# Altium footprint library Penguin.PcbLib: 37 footprints (part 2 of 3)
Each footprint in its own frame and in the unit in brackets; x right, y up, seen from the top. Pads: shape width x height; smd on the part's side, far side on the other; paste and mask are expansions set on the pad; w line width, h text height; cw(c..) or ccw(c..) is an arc to the next point about the centre after c.
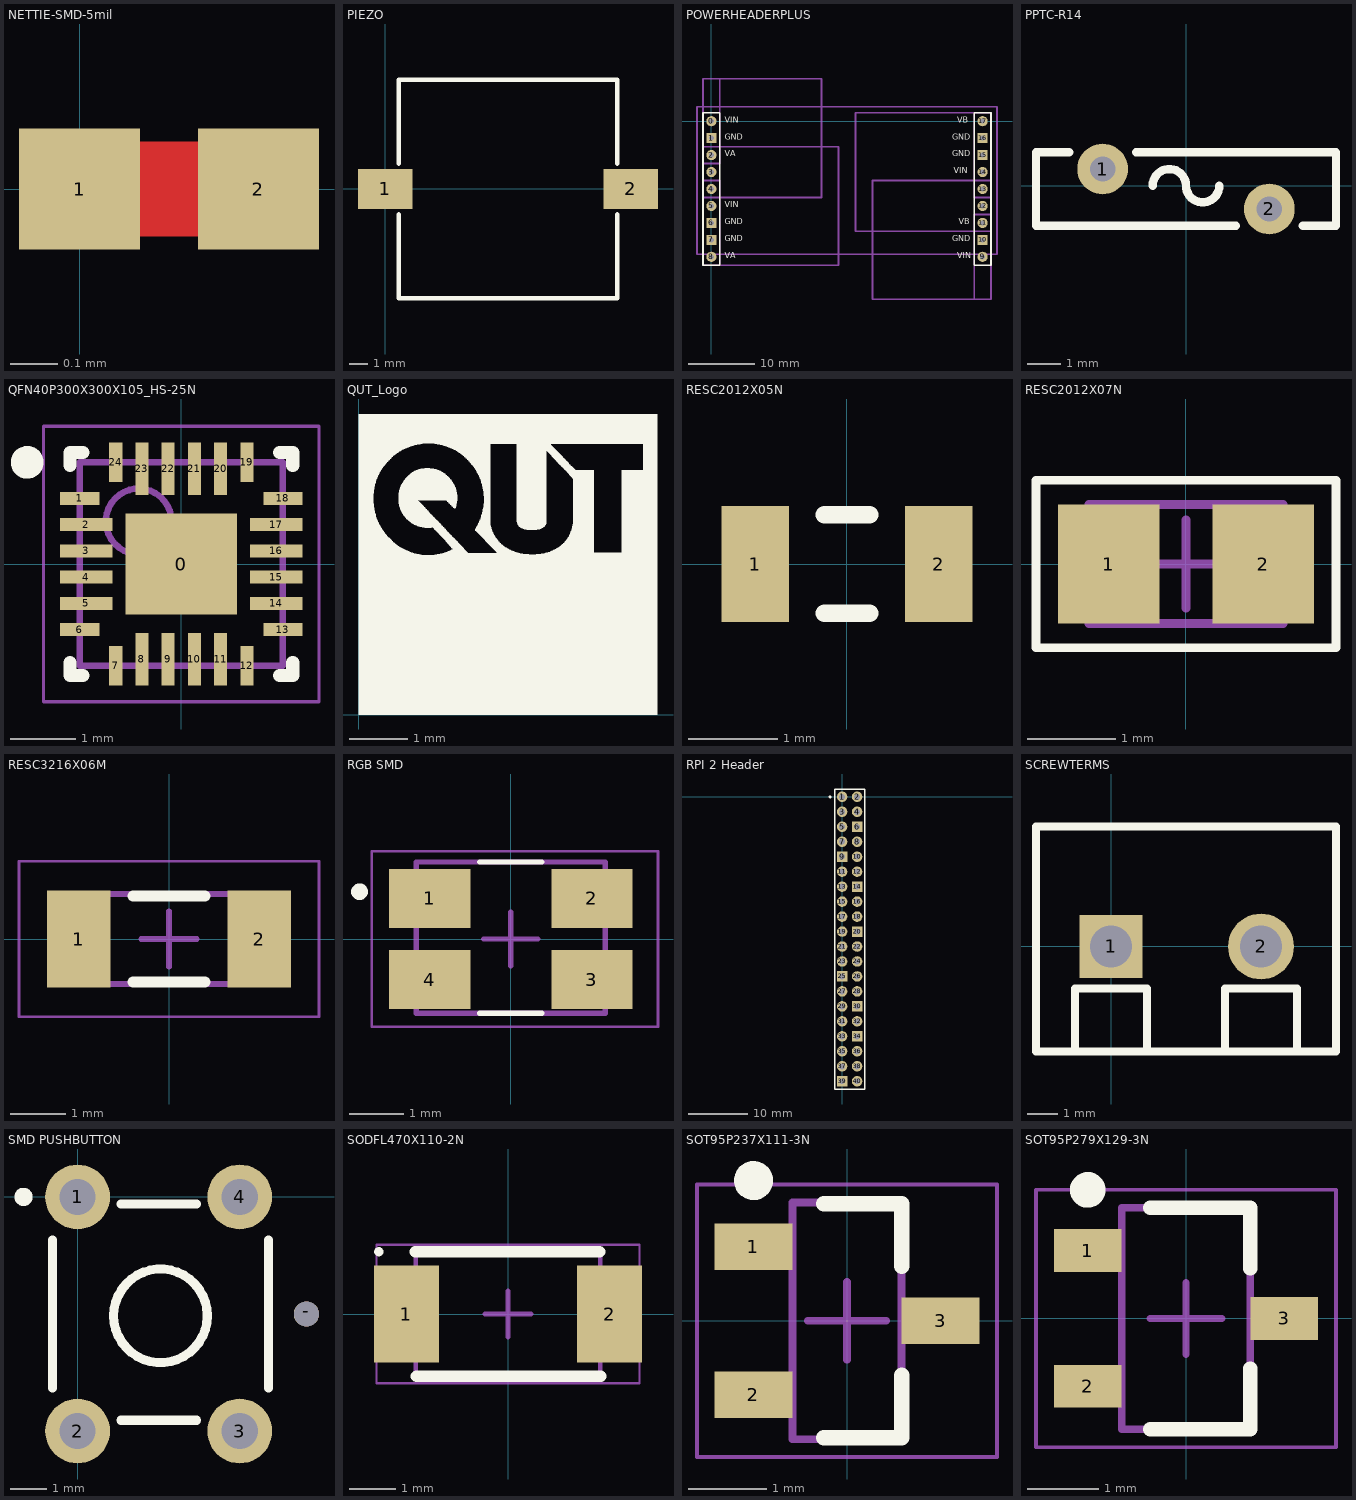
[diagram p1: the footprints below, top view; thin cyan lines are the x and y axes]

## NETTIE-SMD-5mil [mil]
pads (2):
  rect 10x10 smd paste+0 mask+0: 1(0,0) 2(14.76,0)
Top Layer:
  lines w7.87: 0.98,0 13.78,0

## PIEZO [mm]
height 3
pads (2):
  rect 3x2.2 smd: 1(0,0) 2(13.5,0)
Top Overlay:
  lines w0.254: 0.75,-1.4 0.75,-6 12.75,-6 12.75,-1.4 ; 0.75,1.4 0.75,6 12.75,6 12.75,1.4
3D body: height 3, standoff 0, extent 0.623,-6.127 12.877,6.127

## POWERHEADERPLUS [mil]
pads (18):
  round 60 hole 30: 0(0,0) 2(0,-200) 3(0,-300) 4(0,-400) 5(0,-500) 8(0,-800) 9(1600,-800) 11(1600,-600) 12(1600,-500) 13(1600,-400) 14(1600,-300) 17(1600,0)
  rect 60x60 hole 30: 1(0,-100) 6(0,-600) 7(0,-700) 10(1600,-700) 15(1600,-200) 16(1600,-100)
Top Overlay:
  lines w10: -50,-850 50,-850 50,50 -50,50 -50,-850 ; 1550,-850 1650,-850 1650,50 1550,50 1550,-850
  text "GND" at 80,-620 h60
  text "GND" at 1420,-120 h60
  text "VA" at 80,-220 h60
  text "VA" at 80,-820 h60
  text "VB" at 1450,-20 h60
  text "VIN" at 80,-520 h60
  text "GND" at 80,-720 h60
  text "VIN" at 1430,-320 h60
  text "GND" at 1420,-720 h60
  text "VIN" at 80,-20 h60
  text "VIN" at 1450,-820 h60
  text "GND" at 1420,-220 h60
  text "VB" at 1460,-620 h60
  text "GND" at 80,-120 h60
Mechanical 13:
  lines w10: -50,-350 50,-350 50,-850 ; -50,-250 50,-250 50,250 ; 1550,-1050 1550,-550 1650,-550 ; 1550,50 1550,-450 1650,-450 ; -85,-785 -85,85 1685,85 1685,-785 -85,-785 ; -50,-850 -50,-150 750,-150 750,-850 -50,-850 ; -50,-450 650,-450 650,250 -50,250 -50,-450 ; 850,-650 1650,-650 1650,50 850,50 850,-650 ; 950,-1050 950,-350 1650,-350 1650,-1050 950,-1050
  text "D24V50F5" at 1070,0 h60
  text "D24V22F5" at 1070,-1030 h60
  text "D24V50F5" at 260,-840 h60
  text "D24V22F5" at 260,200 h60
  text "XL6009" at 1700,-380 h60
3D body: height 400, standoff 300, extent -85,-1050 1685,250
3D body: height 300, standoff 0, extent 1550,-850 1650,50
3D body: height 300, standoff 0, extent -50,-850 50,50

## PPTC-R14 [mil]
pads (2):
  round 60 hole 30: 1(-98.43,19.68) 2(98.43,-27.56)
Top Overlay:
  lines w10: -137.8,39.37 -177.17,39.37 -177.17,-47.24 59.06,-47.24 ; -59.05,39.37 177.17,39.37 177.17,-47.24 137.8,-47.24 ; -39.37,0 cw(c-19.68,0) 0,0 ccw(c19.68,0) 39.37,0
3D body "TE-PPTC-R10.STEP": height 472.44, standoff -228.35, extent -176.18,-52.76 174.21,43.31

## QFN40P300X300X105_HS-25N [mm] "QFN, 24-Leads, Body 3.00x3.00mm, Pitch 0.40mm, Thermal Pad 1.70x1.54mm, IPC Medium Density"
height 1.05
pads (25):
  rect 1.7x1.54 smd: 0(0,0)
  rect 0.6x0.2 smd: 1(-1.55,1) 6(-1.55,-1) 13(1.55,-1) 18(1.55,1)
  rect 0.8x0.2 smd: 2(-1.45,0.6) 3(-1.45,0.2) 4(-1.45,-0.2) 5(-1.45,-0.6) 14(1.45,-0.6) 15(1.45,-0.2) 16(1.45,0.2) 17(1.45,0.6)
  rect 0.2x0.6 smd: 7(-1,-1.55) 12(1,-1.55) 19(1,1.55) 24(-1,1.55)
  rect 0.2x0.8 smd: 8(-0.6,-1.45) 9(-0.2,-1.45) 10(0.2,-1.45) 11(0.6,-1.45) 20(0.6,1.45) 21(0.2,1.45) 22(-0.2,1.45) 23(-0.6,1.45)
Top Overlay:
  circle w0.25: c-2.35,1.55 r0.125
  lines w0.2: -1.7,-1.5 -1.7,-1.7 -1.5,-1.7 ; -1.7,1.5 -1.7,1.7 -1.5,1.7 ; 1.5,-1.7 1.7,-1.7 1.7,-1.5 ; 1.5,1.7 1.7,1.7 1.7,1.5
Mechanical 15:
  circle w0.1: c-0.65,0.65 r0.5
  lines w0.05: -2.1,-2.1 2.1,-2.1 2.1,2.1 -2.1,2.1 -2.1,-2.1
  lines w0.1: -0.5,0 0.5,0 ; 0,-0.5 0,0.5 ; -1.55,-1.55 1.55,-1.55 1.55,1.55 -1.55,1.55 -1.55,-1.55
3D body "QFN40P300X300X105_HS-25N.step": height 1.05, standoff 0, extent -1.57,-1.57 1.57,1.57

## QUT_Logo [mm]
Top Overlay:
  drawing of 2706 lines, arcs and shapes, not listed

## RESC2012X05N [mm] "Chip Resistor, 2-Leads, Body 2.00x1.20mm, IPC Medium Density"
height 0.5
pads (2):
  rect 0.75x1.3 smd: 1(-1.025,0) 2(1.025,0)
Top Overlay:
  lines w0.2: -0.25,-0.55 0.25,-0.55 ; -0.25,0.55 0.25,0.55

## RESC2012X07N [mm] "Chip Resistor, 2-Leads, Body 2.00x1.25mm, IPC Medium Density"
height 0.7
pads (2):
  rect 1.15x1.35 smd: 1(-0.875,0) 2(0.875,0)
Top Overlay:
  lines w0.1: -1.7,-0.95 1.7,-0.95 1.7,0.95 -1.7,0.95 -1.7,-0.95
Mechanical 15:
  lines w0.05: -1.7,-0.95 -1.7,0.95 1.7,0.95 1.7,-0.95 -1.7,-0.95
  lines w0.1: -0.5,0 0.5,0 ; 0,-0.5 0,0.5 ; -1.1,-0.675 1.1,-0.675 1.1,0.675 -1.1,0.675 -1.1,-0.675
3D body "RESC2012X07N.step": height 0.7, standoff 0, extent -1.1,-0.675 1.1,0.675

## RESC3216X06M [mm] "Chip Resistor, 2-Leads, Body 3.20x1.60mm, IPC Low Density"
height 0.62
pads (2):
  rect 1.15x1.75 smd: 1(-1.625,0) 2(1.625,0)
Top Overlay:
  lines w0.2: -0.65,-0.775 0.65,-0.775 ; -0.65,0.775 0.65,0.775
Mechanical 13:
  lines w0.1: -1.61,-0.81 -1.61,0.81 1.61,0.81 1.61,-0.81 -1.61,-0.81
Mechanical 15:
  lines w0.05: -2.7,-1.4 -2.7,1.4 2.7,1.4 2.7,-1.4 -2.7,-1.4
  lines w0.1: -0.5,0 0.5,0 ; 0,-0.5 0,0.5
3D body "RESC3216X06M.step": height 0.62, standoff 0, extent -1.61,-0.81 1.61,0.81

## RGB SMD [mm] "WL-SFTW"
pads (4):
  rect 1.5x1.1 smd: 1(-1.5,0.75) 2(1.5,0.75) 3(1.5,-0.75) 4(-1.5,-0.75)
Top Overlay:
  circle w0.254: c-2.8,0.875 r0.028
  lines w0.1: -0.575,-1.375 0.575,-1.375 ; -0.575,1.425 0.575,1.425
Mechanical 15:
  lines w0.05: -2.575,-1.625 -2.575,1.625 1.625,1.625 2.725,1.625 2.725,-1.625 -2.575,-1.625
  lines w0.1: -0.5,0 0.5,0 ; 0,-0.5 0,0.5 ; -1.75,-1.375 -1.75,1.425 1.75,1.425 1.75,-1.375 -1.75,-1.375
3D body "AVAGO-ASMB-MTB1-0A3A2_SMD-LED.STEP": height 2.05, standoff 0, extent -1.75,-1.375 1.75,1.425

## RPI 2 Header [mil]
pads (40):
  round 70 hole 40: 1(0,0) 2(100,0) 3(0,-100) 4(100,-100) 5(0,-200) 7(0,-300) 8(100,-300) 10(100,-400) 11(0,-500) 12(100,-500) 13(0,-600) 15(0,-700) 16(100,-700) 17(0,-800) 18(100,-800) 19(0,-900) 21(0,-1000) 22(100,-1000) 23(0,-1100) 24(100,-1100) 26(100,-1200) 27(0,-1300) 28(100,-1300) 29(0,-1400) 31(0,-1500) 32(100,-1500) 33(0,-1600) 35(0,-1700) 36(100,-1700) 37(0,-1800) 38(100,-1800) 40(100,-1900)
  rect 70x70 hole 40: 6(100,-200) 9(0,-400) 14(100,-600) 20(100,-900) 25(0,-1200) 34(100,-1600) 39(0,-1900)
  rect 70x70 hole 40 mask+4: 30(100,-1400)
Top Overlay:
  circle w10: c-80,0 r5
  lines w10: -50,-1951.77 -50,52.17 150,52.17 150,-1951.77 -50,-1951.77
3D body "RPi-Extended-Header.STEP": height 374.02, standoff -492.13, extent -48.23,-1953.74 148.62,54.13

## SCREWTERMS [mm]
height 15.24
pads (2):
  rect 2.1x2.1 hole 1.4: 1(0,0)
  round 2.2 hole 1.4: 2(5,0)
Top Overlay:
  lines w0.254: -1.2,-3.5 -1.2,-1.4 1.2,-1.4 1.2,-3.5 ; 3.8,-3.5 3.8,-1.4 6.2,-1.4 6.2,-3.5 ; -2.5,-3.5 -2.5,4 7.5,4 7.5,-3.5 -2.5,-3.5
3D body: height 10, standoff 0, extent -2.5,-3.5 7.62,4

## SMD PUSHBUTTON [mm]
pads (5):
  round 1.8 hole 1: 1(0,0) 2(0,-6.5) 3(4.5,-6.5) 4(4.5,0)
  round 0.7 hole 0.7: -(6.35,-3.25)
Top Overlay:
  circle w0.254: c-1.5,0 r0.127
  circle w0.254: c2.3,-3.3 r1.3
  lines w0.254: -0.7,-5.3 -0.7,-1.2 ; 1.2,-6.2 3.3,-6.2 ; 1.2,-0.2 3.3,-0.2 ; 5.3,-5.3 5.3,-1.2
3D body: height 3.4, standoff 0, extent -0.827,-6.327 5.427,-0.073
3D body: height 3.9, standoff 3.4, extent 1.001,-4.599 3.599,-2.001

## SODFL470X110-2N [mm] "SODFL, 2-Leads, Body 2.50x4.70mm, IPC Medium Density"
height 1.1
pads (2):
  rect 1.4x2.1 smd: 1(-2.2,0) 2(2.2,0)
Top Overlay:
  circle w0.1: c-2.8,1.35 r0.05
  lines w0.254: -2.007,1.346 1.981,1.346 ; -1.981,-1.346 2.007,-1.346
Mechanical 15:
  lines w0.05: -2.85,-1.5 2.85,-1.5 2.85,1.5 -2.85,1.5 -2.85,-1.5
  lines w0.1: -0.5,0 0.5,0 ; 0,-0.5 0,0.5 ; -2,-1.35 -2,1.35 2,1.35 2,-1.35 -2,-1.35
3D body "SODFL470X110-2N.step": height 1.1, standoff 0, extent -2.35,-1.35 2.35,1.35

## SOT95P237X111-3N [mm] "ON Semi NPN BJT - SOT23, 3-Leads, Body 2.92x2.37mm, Pitch 0.95mm, IPC Medium Density"
height 1.11
pads (3):
  rect 1x0.6 smd: 1(-1.2,0.95) 2(-1.2,-0.95) 3(1.2,0)
Top Overlay:
  circle w0.25: c-1.2,1.8 r0.125
  lines w0.2: -0.3,-1.5 0.7,-1.5 0.7,-0.7 ; -0.3,1.5 0.7,1.5 0.7,0.7
Mechanical 15:
  lines w0.05: -1.925,-1.75 -1.925,1.75 1.925,1.75 1.925,-1.75 -1.925,-1.75
  lines w0.1: -0.5,0 0.5,0 ; 0,-0.5 0,0.5 ; -0.7,-1.52 -0.7,1.52 0.7,1.52 0.7,-1.52 -0.7,-1.52
3D body "SOT95P237X111-3N.step": height 1.11, standoff 0, extent -1.42,-1.52 1.42,1.52

## SOT95P279X129-3N [mm] "RICHTECK LDO - SOT23, 3-Leads, Body 2.90x2.79mm, Pitch 0.95mm, IPC Medium Density"
height 1.3
pads (3):
  rect 0.95x0.6 smd: 1(-1.375,0.95) 2(-1.375,-0.95) 3(1.375,0)
Top Overlay:
  circle w0.25: c-1.375,1.8 r0.125
  lines w0.2: -0.5,-1.55 0.9,-1.55 0.9,-0.7 ; -0.5,1.55 0.9,1.55 0.9,0.7
Mechanical 15:
  lines w0.05: -2.1,-1.8 2.1,-1.8 2.1,1.8 -2.1,1.8 -2.1,-1.8
  lines w0.1: -0.5,0 0.5,0 ; 0,-0.5 0,0.5 ; -0.9,-1.55 0.9,-1.55 0.9,1.55 -0.9,1.55 -0.9,-1.55
3D body "SOT95P279X129-3N.step": height 1.3, standoff 0, extent -1.499,-1.55 1.499,1.55